# Altium schematic symbol library diodes-inc-transistor.SchLib: 15 symbols
Pins are listed as number, name and electrical type; pins without a type are passive.

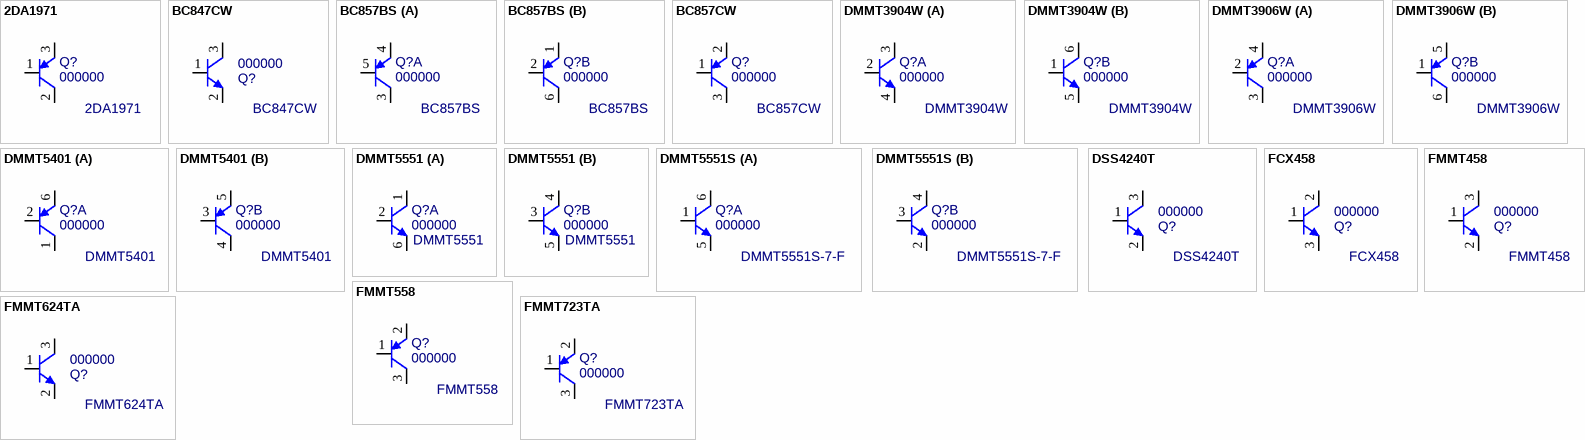
[diagram p0: symbols 2DA1971 to FMMT723TA]

## 2DA1971
designator Q?, comment 000000  value 2DA1971
PNP Transistor 400V 0.5A; MF: Diodes Inc; PN: 000000; Package: SOT89; ExtraInfo: *
signal-integrity model PNP
footprint SOT89 (SOT89, 3-Leads, Body 4.5x2.5mm (max), Pitch 1.50mm, Lead Span 4.0mm, IPC Medium Density)
pins: 1 B, 2 C, 3 E

## BC847CW
designator Q?, comment 000000  value BC847CW
NPN General-purpose Transistor; MF PN: BC847CW-7-F; MF: Diodes Inc; PN: 000000; Package: SOT-323; ExtraInfo: *; Price: 0.03647; Digi-Key PN: BC847CW-FDICT-ND
simulation model DI_BC847CW (Model Description)
footprint SOT-323-M (6-Lead Plastic surface-mounted package, 0.65mm pitch, SOT363/SC-88)
pins: 1 B, 2 E, 3 C

## BC857BS
designator Q?, comment 000000  value BC857BS
PNP General-purpose Transistor; MF: Diodes Inc; PN: 000000; Package: SOT323; ExtraInfo: *
signal-integrity model PNP
footprint SOT363-M (6-Lead Plastic surface-mounted package, 0.65mm pitch, SOT363/SC-88)
part A pins: 3 C1, 4 E1, 5 B1
part B pins: 1 E2, 2 B2, 6 C2

## BC857CW
designator Q?, comment 000000  value BC857CW
PNP General-purpose Transistor; MF: Diodes Inc; MF PN: BC857CW-7-F; PN: 000000; Package: SOT323; ExtraInfo: *; Price: 0.03647; Digi-Key PN: BC857CW-FDICT-ND
signal-integrity model PNP
footprint SOT-323-M (6-Lead Plastic surface-mounted package, 0.65mm pitch, SOT363/SC-88)
pins: 1 B, 2 E, 3 C

## DMMT3904W
designator Q?, comment 000000  value DMMT3904W
NPN Smal Signal Matched Transistor; MF: Diodes Inc; PN: 000000; Package: SOT323; ExtraInfo: *
signal-integrity model PNP
footprint SOT363 (6-Lead Plastic surface-mounted package, 0.65mm pitch, SOT363/SC-88)
simulation model DI_DMMT3904W (Model Description)
part A pins: 2 B1, 3 C1, 4 E1
part B pins: 1 B2, 5 E2, 6 C2

## DMMT3906W
designator Q?, comment 000000  value DMMT3906W
PNP Smal Signal Matched Transistor; MF: Diodes Inc; PN: 000000; Package: SOT323; ExtraInfo: *
signal-integrity model PNP
footprint SOT363 (6-Lead Plastic surface-mounted package, 0.65mm pitch, SOT363/SC-88)
simulation model DI_DMMT3906W (SRC=DMMT3906W;DI_DMMT3906W;BJTs PNP; Si;  40.0V  0.200A  257MHz   Diodes, Inc. PNP)
part A pins: 2 B1, 3 C1, 4 E1
part B pins: 1 B2, 5 E2, 6 C2

## DMMT5401
designator Q?, comment 000000  value DMMT5401
PNP Smal Signal Matched Transistor -150V -200mA; MF: Diodes Inc; PN: 000000; Package: SOT-26; ExtraInfo: *
signal-integrity model PNP
footprint SOT23-6-HV (SOT23, 6-Leads, Body 3.0x3.0mm (max), Pitch 0.95mm, IPC High Voltage)
footprint SOT23-6-M (SOT23, 6-Leads, Body 3.0x3.0mm (max), Pitch 0.95mm, IPC Medium Density)
part A pins: 1 C1, 2 B1, 6 E1
part B pins: 3 B2, 4 C2, 5 E2

## DMMT5551
designator Q?, comment 000000  value DMMT5551
NPN Smal Signal Matched Transistor 160V 200mA; MF PN: DMMT5551-7-F; MF: Diodes Inc; PN: 000000; Package: SOT-26; ExtraInfo: *; Digi-Key PN: DMMT5551-FDICT-ND; Price: 0.09900
footprint SOT23-6-HV (SOT23, 6-Leads, Body 3.0x3.0mm (max), Pitch 0.95mm, IPC High Voltage)
footprint SOT23-6-M (SOT23, 6-Leads, Body 3.0x3.0mm (max), Pitch 0.95mm, IPC Medium Density)
part A pins: 1 C1, 2 B1, 6 E1
part B pins: 3 B2, 4 C2, 5 E2

## DMMT5551S
designator Q?, comment 000000  value DMMT5551S-7-F
NPN Smal Signal Matched Transistor 160V 200mA; MF: Diodes Inc; PN: 000000; Package: SOT-26; ExtraInfo: *
footprint SOT23-6-HV (SOT23, 6-Leads, Body 3.0x3.0mm (max), Pitch 0.95mm, IPC High Voltage)
part A pins: 1 B1, 5 E1, 6 C1
part B pins: 2 E2, 3 B2, 4 C2

## DSS4240T
designator Q?, comment 000000  value DSS4240T
NPN  Transistor, 40V, 2A; MF: Diodes Inc; PN: 000000; Package: SOT-23; ExtraInfo: *
footprint SOT-23-M (SOT23, 3-Leads, Body 3.0x2.8mm (max), Pitch 0.95mm, Medium Density)
pins: 1 B, 2 E, 3 C

## FCX458
designator Q?, comment 000000  value FCX458
NPN 400V 1.5W Transistor; MF: Diodes Inc; PN: 000000; Package: SOT-89; ExtraInfo: *
footprint SOT89 (SOT89, 3-Leads, Body 4.5x2.5mm (max), Pitch 1.50mm, Lead Span 4.0mm, IPC Medium Density)
footprint SOT89-HV (SOT89, 3-Leads, Body 4.5x2.5mm (max), Pitch 1.50mm, Lead Span 4.0mm, IPC Medium Density)
pins: 1 B, 2 C, 3 E

## FMMT458
designator Q?, comment 000000  value FMMT458
NPN 400V Transistor; MF: Diodes Inc; PN: 000000; Package: SOT-23; ExtraInfo: *
footprint SOT-23 (SOT23, 3-Leads, Body 3.0x2.8mm (max), Pitch 0.95mm, IPC High Density)
footprint SOT-23-HV (SOT23, 3-Leads, Body 3.0x2.8mm (max), Pitch 0.95mm, IPC High Density)
pins: 1 B, 2 E, 3 C

## FMMT558
designator Q?, comment 000000  value FMMT558
PNP 400V Transistor; MF: Diodes Inc; PN: 000000; Package: SOT23; ExtraInfo: *
signal-integrity model PNP
footprint SOT-23 (SOT23, 3-Leads, Body 3.0x2.8mm (max), Pitch 0.95mm, IPC High Density)
footprint SOT-23-HV (SOT23, 3-Leads, Body 3.0x2.8mm (max), Pitch 0.95mm, IPC High Density)
pins: 1 B, 2 E, 3 C

## FMMT624TA
designator Q?, comment 000000  value FMMT624TA
NPN Transistor 125V 1A; MF: Diodes Inc; PN: 000000; Package: SOT-23; ExtraInfo: *
footprint SOT-23 (SOT23, 3-Leads, Body 3.0x2.8mm (max), Pitch 0.95mm, IPC High Density)
footprint SOT-23-HV (SOT23, 3-Leads, Body 3.0x2.8mm (max), Pitch 0.95mm, IPC High Density)
pins: 1 B, 2 E, 3 C

## FMMT723TA
designator Q?, comment 000000  value FMMT723TA
PNP Transistor -100V -1A; MF: Diodes Inc; PN: 000000; Package: SOT23; ExtraInfo: *
signal-integrity model PNP
footprint SOT-23 (SOT23, 3-Leads, Body 3.0x2.8mm (max), Pitch 0.95mm, IPC High Density)
footprint SOT-23-HV (SOT23, 3-Leads, Body 3.0x2.8mm (max), Pitch 0.95mm, IPC High Density)
pins: 1 B, 2 E, 3 C